# EAGLE library part HEF4082BP (library NXP_By_element14_Batch_1)
Dual 4-input AND gate
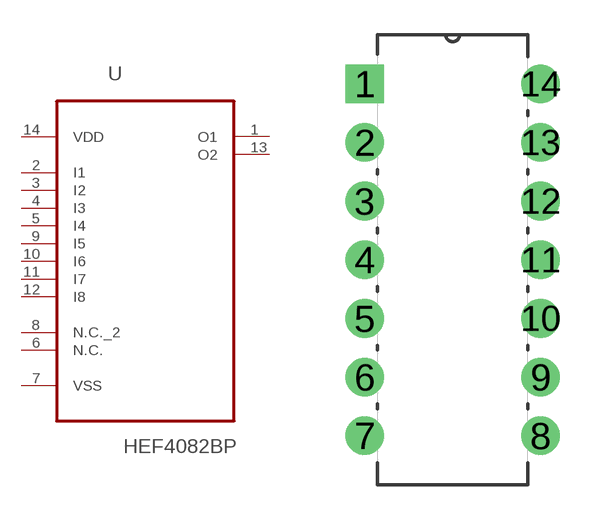
[diagram p275: symbol with the pads of DIP254P762X420-14; footprint DIP254P762X420-14]

Designator prefix U

## HEF4082BP (MPN: HEF4082BP; OC_FARNELL: 385750; OC_NEWARK: 10WX5477; P1I: o; PACKAGE: DIP-14; SUPPLIER: NXP)  [DIP254P762X420-14]
1  O1  out
2  I1  in
3  I2  in
4  I3  in
5  I4  in
6  N.C.  nc
7  VSS  pas
8  N.C._2  nc
9  I5  in
10  I6  in
11  I7  in
12  I8  in
13  O2  out
14  VDD  pwr

## Footprint DIP254P762X420-14 (pad centres in mm)
drill 1.118 square: 1 -7.62,15.24
drill 1.118: 2 -7.62,12.7; 3 -7.62,10.16; 4 -7.62,7.62; 5 -7.62,5.08; 6 -7.62,2.54; 7 -7.62,0; 8 0,0; 9 0,2.54; 10 0,5.08; 11 0,7.62; 12 0,10.16; 13 0,12.7; 14 0,15.24